# Altium footprint library Bare 2.50mm headers.PcbLib: 2 footprints
Each footprint in its own frame and in the unit in brackets; x right, y up, seen from the top. Pads: shape width x height; smd on the part's side, far side on the other; paste and mask are expansions set on the pad; w line width, h text height; cw(c..) or ccw(c..) is an arc to the next point about the centre after c.
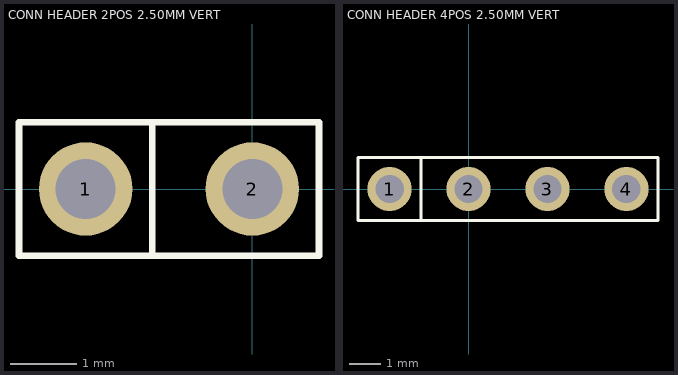
[diagram p0: the footprints below, top view; thin cyan lines are the x and y axes]

## CONN HEADER 2POS 2.50MM VERT [mm] "CONN HEADER 2POS 2.50MM VERT"
pads (2):
  round 1.4 hole 0.9: 1(-2.5,0) 2(0,0)
Top Overlay:
  lines w0.1: -1.5,-1 -1.5,1 ; -3.5,-1 1,-1 1,1 -3.5,1 -3.5,-1

## CONN HEADER 4POS 2.50MM VERT [mm] "CONN HEADER 4POS 2.50MM VERT"
pads (4):
  round 1.4 hole 0.9: 1(-2.5,0) 2(0,0) 3(2.5,0) 4(5,0)
Top Overlay:
  lines w0.1: -1.5,-1 -1.5,1 ; -3.5,-1 6,-1 6,1 -3.5,1 -3.5,-1